# Altium footprint library Pack_Bionics_PcbLib.PcbLib: 40 footprints (part 3 of 3)
Each footprint in its own frame and in the unit in brackets; x right, y up, seen from the top. Pads: shape width x height; smd on the part's side, far side on the other; paste and mask are expansions set on the pad; w line width, h text height; cw(c..) or ccw(c..) is an arc to the next point about the centre after c.
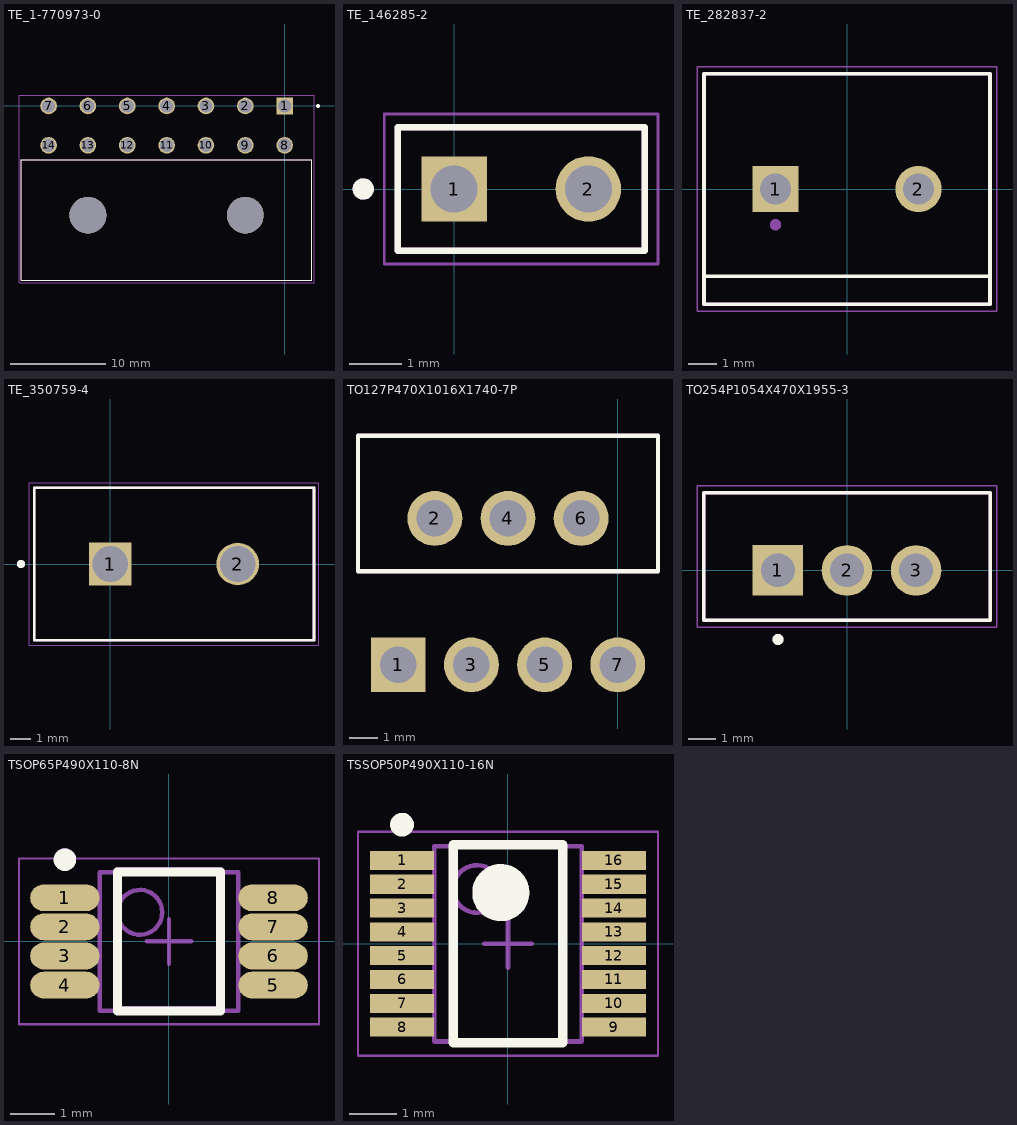
[diagram p2: the footprints below, top view; thin cyan lines are the x and y axes]

## TE_1-770973-0 [mm]
pads (16):
  rect 1.75x1.75 hole 1.4: 1(0,0)
  round 1.75 hole 1.4: 2(-4.14,0) 3(-8.28,0) 4(-12.42,0) 5(-16.56,0) 6(-20.7,0) 7(-24.84,0) 8(0,-4.14) 9(-4.14,-4.14) 10(-8.28,-4.14) 11(-12.42,-4.14) 12(-16.56,-4.14) 13(-20.7,-4.14) 14(-24.84,-4.14)
  round 3.86 hole 3.86 unplated: ""(-20.7,-11.48) ""(-4.14,-11.48)
Top Overlay:
  circle w0.2: c3.51,0 r0.1
  lines w0.127: -27.7,-18.34 2.86,-18.34 2.86,-5.64 -27.7,-5.64 -27.7,-18.34
Mechanical 13:
  circle w0.2: c3.51,0 r0.1
  lines w0.127: -27.7,-18.34 2.86,-18.34 ; -27.7,-18.34 2.86,-18.34 ; -27.7,-18.34 -27.7,-5.64 2.86,-5.64 2.86,-18.34
Mechanical 15:
  lines w0.05: -27.95,-18.59 3.11,-18.59 3.11,1.125 -27.95,1.125 -27.95,-18.59

## TE_146285-2 [mm]
pads (2):
  rect 1.24x1.24 hole 0.89: 1(0,0)
  round 1.24 hole 0.89: 2(2.54,0)
Top Overlay:
  circle w0.2: c-1.72,0 r0.1
  lines w0.127: -1.07,-1.17 -1.07,1.17 3.61,1.17 3.61,-1.17 -1.07,-1.17
Mechanical 13:
  circle w0.2: c-1.72,0 r0.1
  lines w0.127: -1.07,-1.17 -1.07,1.17 3.61,1.17 3.61,-1.17 ; -1.07,-1.17 3.61,-1.17 ; -1.07,-1.17 3.61,-1.17
Mechanical 15:
  lines w0.05: -1.32,-1.42 -1.32,1.42 3.86,1.42 3.86,-1.42 -1.32,-1.42

## TE_282837-2 [mm]
pads (2):
  rect 1.65x1.65 hole 1.1: 1(-2.54,0)
  round 1.65 hole 1.1: 2(2.54,0)
Top Overlay:
  lines w0.127: -5.08,-3.1 5.08,-3.1 ; -5.08,-3.1 -5.08,4.1 5.08,4.1 5.08,-3.1 ; -5.08,-3.1 -5.08,-4.1 5.08,-4.1 5.08,-3.1
Mechanical 13:
  circle w0.2: c-2.54,-1.27 r0.1
  lines w0.127: -5.08,-4.1 -5.08,4.1 5.08,4.1 5.08,-4.1 -5.08,-4.1
Mechanical 15:
  lines w0.05: -5.33,-4.35 -5.33,4.35 5.33,4.35 5.33,-4.35 -5.33,-4.35
3D body "step_temp.STEP": height 7.25, standoff -6.25, extent -5.68,0 5.08,8.2

## TE_350759-4 [mm]
pads (2):
  rect 2.13x2.13 hole 1.78: 1(0,0)
  round 2.13 hole 1.78: 2(6.35,0)
Top Overlay:
  circle w0.2: c-4.46,0 r0.1
  lines w0.127: -3.81,-3.81 10.16,-3.81 10.16,3.81 -3.81,3.81 -3.81,-3.81
Mechanical 1:
  text "'.Designator'" at -3.556,-3.048 h1.52
Mechanical 13:
  circle w0.2: c-4.46,0 r0.1
  lines w0.127: -3.81,-3.81 10.16,-3.81 ; -3.81,-3.81 10.16,-3.81 ; -3.81,-3.81 -3.81,3.81 10.16,3.81 10.16,-3.81
Mechanical 15:
  lines w0.05: -4.06,-4.06 10.41,-4.06 10.41,4.06 -4.06,4.06 -4.06,-4.06

## TO127P470X1016X1740-7P [mil]
pads (7):
  rect 75x75 hole 50: 1(-300,-441)
  round 75 hole 50: 2(-250,-241) 3(-200,-441) 4(-150,-241) 5(-100,-441) 6(-50,-241) 7(0,-441)
Top Overlay:
  lines w6: -355,-313 55,-313 55,-128 -355,-128 -355,-313
Mechanical 13:
  lines w6: -355,-313 55,-313 55,-128 -355,-128 -355,-313

## TO254P1054X470X1955-3 [mm]
pads (3):
  rect 1.86x1.86 hole 1.24: 1(-2.54,0)
  round 1.86 hole 1.24: 2(0,0) 3(2.54,0)
Top Overlay:
  circle w0.2: c-2.54,-2.54 r0.1
  lines w0.127: -5.27,-1.84 5.27,-1.84 5.27,2.86 -5.27,2.86 -5.27,-1.84
Mechanical 13:
  circle w0.2: c-2.54,-2.54 r0.1
  lines w0.127: -5.27,-1.84 5.27,-1.84 5.27,2.86 -5.27,2.86 -5.27,-1.84
Mechanical 15:
  lines w0.05: -5.52,-2.09 5.52,-2.09 5.52,3.11 -5.52,3.11 -5.52,-2.09

## TSOP65P490X110-8N [mm] "TSOP, 8-Leads, Body 3.00x3.00mm, Pitch 0.65mm, IPC Medium Density"
height 1.1
pads (8):
  oval 1.55x0.6 smd: 1(-2.325,0.975) 2(-2.325,0.325) 3(-2.325,-0.325) 4(-2.325,-0.975) 5(2.325,-0.975) 6(2.325,-0.325) 7(2.325,0.325) 8(2.325,0.975)
Top Overlay:
  circle w0.25: c-2.325,1.825 r0.125
  lines w0.2: -1.15,-1.55 1.15,-1.55 1.15,1.55 -1.15,1.55 -1.15,-1.55
Mechanical 1:
  circle w0.25: c-2.324,1.833 r0.125
  lines w0.2: -1.149,-1.542 1.151,-1.542 1.151,1.558 -1.149,1.558 -1.149,-1.542
  text "'.Designator'" at -0.997,-0.881 h1.52
Mechanical 13:
  circle w0.1: c-0.65,0.65 r0.5
  lines w0.1: -1.55,-1.55 1.55,-1.55 1.55,1.55 -1.55,1.55 -1.55,-1.55
Mechanical 15:
  lines w0.05: -3.35,-1.85 3.35,-1.85 3.35,1.85 -3.35,1.85 -3.35,-1.85
  lines w0.1: -0.5,0 0.5,0 ; 0,-0.5 0,0.5
3D body: height 1.1, standoff 0.25, extent -1.55,-1.55 1.55,1.55

## TSSOP50P490X110-16N [mm] "TSSOP, 16-Leads, Body 4.04x3.00mm, Pitch 0.50mm, IPC Medium Density"
height 1.1
pads (16):
  rect 1.35x0.4 smd: 1(-2.225,1.75) 2(-2.225,1.25) 3(-2.225,0.75) 4(-2.225,0.25) 5(-2.225,-0.25) 6(-2.225,-0.75) 7(-2.225,-1.25) 8(-2.225,-1.75) 9(2.225,-1.75) 10(2.225,-1.25) 11(2.225,-0.75) 12(2.225,-0.25) 13(2.225,0.25) 14(2.225,0.75) 15(2.225,1.25) 16(2.225,1.75)
Top Overlay:
  circle w0.6: c-0.15,1.075 r0.3
  circle w0.25: c-2.225,2.5 r0.125
  lines w0.2: -1.15,-2.075 1.15,-2.075 1.15,2.075 -1.15,2.075 -1.15,-2.075
Mechanical 13:
  circle w0.1: c-0.65,1.15 r0.5
  lines w0.1: -1.55,-2.05 1.55,-2.05 1.55,2.05 -1.55,2.05 -1.55,-2.05
Mechanical 15:
  lines w0.05: -3.15,-2.35 3.15,-2.35 3.15,2.35 -3.15,2.35 -3.15,-2.35
  lines w0.1: -0.5,0 0.5,0 ; 0,-0.5 0,0.5
3D body: height 1.1, standoff 0.1, extent -1.55,-2.05 1.55,2.05